# Altium footprint library Capacitors SMD.PcbLib: 74 footprints (part 3 of 5)
Each footprint in its own frame and in the unit in brackets; x right, y up, seen from the top. Pads: shape width x height; smd on the part's side, far side on the other; paste and mask are expansions set on the pad; w line width, h text height; cw(c..) or ccw(c..) is an arc to the next point about the centre after c.
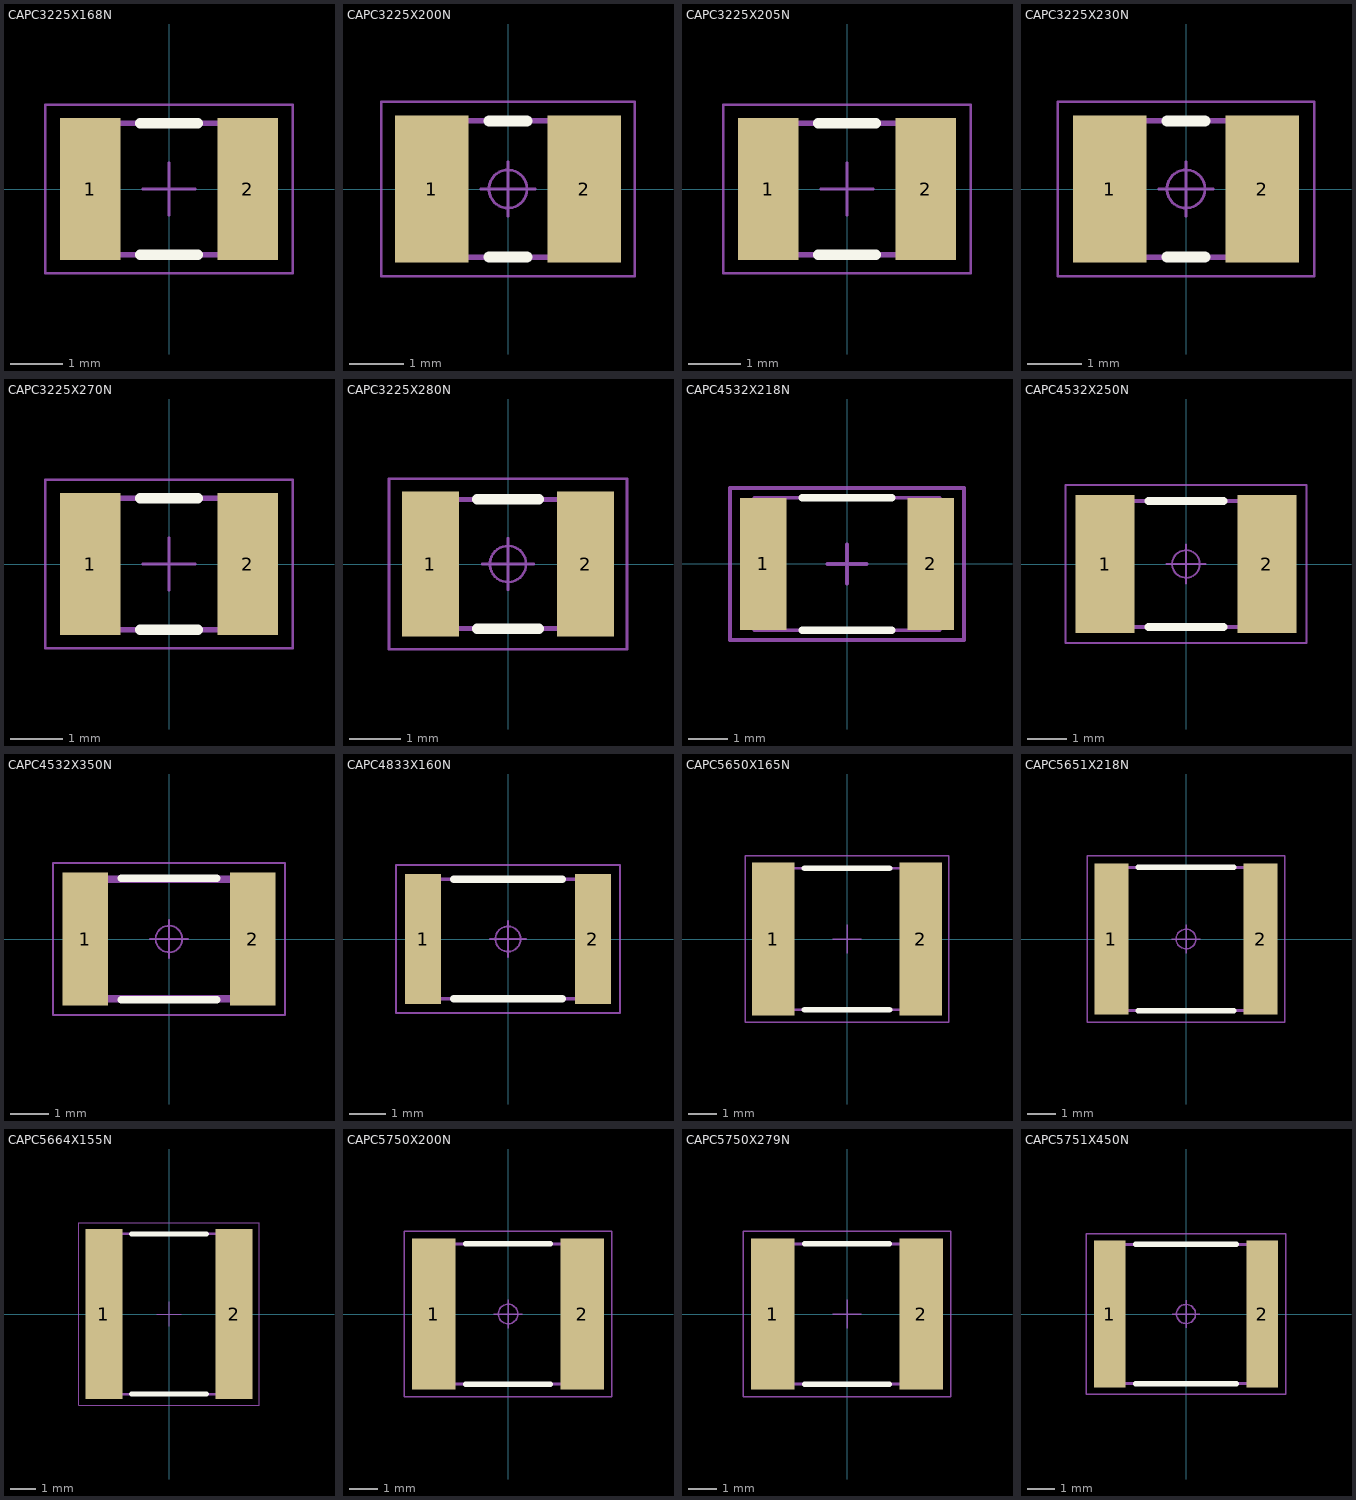
[diagram p2: the footprints below, top view; thin cyan lines are the x and y axes]

## CAPC3225X168N [mm] "Chip Capacitor, Body 3.2x2.5mm, IPC Medium Density"
height 1.68
pads (2):
  rect 1.15x2.7 smd: 1(-1.5,0) 2(1.5,0)
Top Overlay:
  lines w0.2: -0.55,-1.25 0.55,-1.25 ; -0.55,1.25 0.55,1.25
Mechanical 14:
  lines w0.1: -1.6,-1.25 -1.6,1.25 1.6,1.25 1.6,-1.25 -1.6,-1.25
Mechanical 15:
  lines w0.05: -0.5,0 0,0 ; 0,-0.5 0,0 ; 0,0.5 0,0 ; 0.5,0 0,0 ; -2.35,-1.6 -2.35,1.6 2.35,1.6 2.35,-1.6 -2.35,-1.6
3D body "CAPC3225X168N.stp": height 1.68, standoff 0, extent -1.7,-1.35 1.7,1.35

## CAPC3225X200N [mm] "Chip Capacitor, Body 3.2x2.5mm, IPC Medium Density"
height 2
pads (2):
  rect 1.35x2.7 smd: 1(-1.4,0) 2(1.4,0)
Top Overlay:
  lines w0.2: -0.35,-1.25 0.35,-1.25 ; -0.35,1.25 0.35,1.25
Mechanical 14:
  lines w0.1: -1.6,-1.25 -1.6,1.25 1.6,1.25 1.6,-1.25 -1.6,-1.25
Mechanical 15:
  circle w0.05: c0,0 r0.35
  lines w0.05: -0.5,0 0.5,0 ; 0,-0.5 0,0.5 ; -2.325,-1.6 -2.325,1.6 2.325,1.6 2.325,-1.6 -2.325,-1.6
3D body "CAPC3225X200N.stp": height 2, standoff 0, extent -1.7,-1.35 1.5,1.35

## CAPC3225X205N [mm] "Chip Capacitor, Body 3.2x2.5mm, IPC Medium Density"
height 2.05
pads (2):
  rect 1.15x2.7 smd: 1(-1.5,0) 2(1.5,0)
Top Overlay:
  lines w0.2: -0.55,-1.25 0.55,-1.25 ; -0.55,1.25 0.55,1.25
Mechanical 14:
  lines w0.1: -1.6,-1.25 1.6,-1.25 1.6,1.25 -1.6,1.25 -1.6,-1.25
Mechanical 15:
  lines w0.05: -2.35,-1.6 -2.35,1.6 2.35,1.6 2.35,-1.6 -2.35,-1.6 ; -0.5,0 0.5,0 -0.5,0 ; 0,-0.5 0,0.5 0,-0.5
3D body "CAPC3225X205N.stp": height 2.05, standoff 0, extent -1.7,-1.35 1.7,1.35

## CAPC3225X230N [mm] "Chip Capacitor, Body 3.2x2.5mm, IPC Medium Density"
height 2.3
pads (2):
  rect 1.35x2.7 smd: 1(-1.4,0) 2(1.4,0)
Top Overlay:
  lines w0.2: -0.35,-1.25 0.35,-1.25 ; -0.35,1.25 0.35,1.25
Mechanical 14:
  lines w0.1: -1.6,-1.25 -1.6,1.25 1.6,1.25 1.6,-1.25 -1.6,-1.25
Mechanical 15:
  circle w0.05: c0,0 r0.35
  lines w0.05: -0.5,0 0.5,0 ; 0,-0.5 0,0.5 ; -2.35,-1.6 -2.35,1.6 2.35,1.6 2.35,-1.6 -2.35,-1.6
3D body "CAPC3225X230N.stp": height 2.3, standoff 0, extent -1.7,-1.35 1.7,1.35

## CAPC3225X270N [mm] "Chip Capacitor, Body 3.2x2.5mm, IPC Medium Density"
height 2.7
pads (2):
  rect 1.15x2.7 smd: 1(-1.5,0) 2(1.5,0)
Top Overlay:
  lines w0.2: -0.55,-1.25 0.55,-1.25 ; -0.55,1.25 0.55,1.25
Mechanical 14:
  lines w0.1: -1.6,-1.25 1.6,-1.25 1.6,1.25 -1.6,1.25 -1.6,-1.25
Mechanical 15:
  lines w0.05: -2.35,-1.6 -2.35,1.6 2.35,1.6 2.35,-1.6 -2.35,-1.6 ; -0.5,0 0.5,0 -0.5,0 ; 0,-0.5 0,0.5 0,-0.5
3D body "CAPC3225X270N.stp": height 2.7, standoff 0, extent -1.7,-1.35 1.7,1.35

## CAPC3225X280N [mm] "Chip Capacitor, Body 3.2x2.5mm, IPC Medium Density"
height 2.8
pads (2):
  rect 1.1x2.8 smd: 1(-1.5,0) 2(1.5,0)
Top Overlay:
  lines w0.2: -0.6,-1.25 0.6,-1.25 ; -0.6,1.25 0.6,1.25
Mechanical 14:
  lines w0.1: -1.6,-1.25 1.6,-1.25 1.6,1.25 -1.6,1.25 -1.6,-1.25
Mechanical 15:
  circle w0.05: c0,0 r0.35
  lines w0.05: -0.5,0 0.5,0 ; 0,-0.5 0,0.5 ; -2.3,-1.65 2.3,-1.65 2.3,1.65 -2.3,1.65 -2.3,-1.65
3D body "CAPC3225X280N.stp": height 2.8, standoff 0, extent -1.7,-1.35 1.7,1.35

## CAPC4532X218N [mm] "Chip Capacitor, 2-Leads, Body 4.5x3.2mm, IPC Medium Density"
height 2.18
pads (2):
  rect 1.2x3.4 smd: 1(-2.15,0) 2(2.15,0)
Top Overlay:
  lines w0.2: -1.15,-1.7 1.15,-1.7 ; -1.15,1.7 1.15,1.7
Mechanical 14:
  lines w0.1: -2.375,-1.7 -2.375,1.7 2.375,1.7 2.375,-1.7 -2.375,-1.7
Mechanical 15:
  lines w0.1: -0.5,0 0.5,0 ; 0,-0.5 0,0.5 ; -3,-1.95 -3,1.95 3,1.95 3,-1.95 -3,-1.95
3D body "CAPC4532X218N.stp": height 2.18, standoff 0, extent -2.375,-1.7 2.375,1.7

## CAPC4532X250N [mm] "Chip Capacitor, 2-Leads, Body 4.5x3.2mm, IPC Medium Density"
height 2.5
pads (2):
  rect 1.5x3.5 smd: 1(-2.05,0) 2(2.05,0)
Top Overlay:
  lines w0.2: -0.95,-1.6 0.95,-1.6 ; -0.95,1.6 0.95,1.6
Mechanical 14:
  lines w0.1: -2.25,-1.6 2.25,-1.6 2.25,1.6 -2.25,1.6 -2.25,-1.6
Mechanical 15:
  circle w0.05: c0,0 r0.35
  lines w0.05: -0.5,0 0.5,0 ; 0,-0.5 0,0.5 ; -3.05,-2 3.05,-2 3.05,2 -3.05,2 -3.05,-2
3D body "CAPC4532X250N.stp": height 2.5, standoff 0, extent -2.375,-1.7 2.375,1.7

## CAPC4532X350N [mm] "Chip Capacitor, 2-Leads, Body 4.5x3.2mm, IPC Medium Density"
height 3.5
pads (2):
  rect 1.2x3.5 smd: 1(-2.2,0) 2(2.2,0)
Top Overlay:
  lines w0.2: -1.25,-1.6 1.25,-1.6 ; -1.25,1.6 1.25,1.6
Mechanical 14:
  lines w0.2: -2.25,-1.575 -2.25,1.575 2.25,1.575 2.25,-1.575 -2.25,-1.575
Mechanical 15:
  circle w0.05: c0,0 r0.35
  lines w0.05: -0.5,0 0.5,0 ; 0,-0.5 0,0.5 ; -3.05,-2 -3.05,2 3.05,2 3.05,-2 -3.05,-2
3D body "CAPC4532X350N.stp": height 3.5, standoff 0, extent -2.45,-1.8 2.45,1.8

## CAPC4833X160N [mm] "Chip Capacitor, 2-Leads, Body 4.8x3.3mm, IPC Medium Density"
height 1.6
pads (2):
  rect 1x3.6 smd: 1(-2.35,0) 2(2.35,0)
Top Overlay:
  lines w0.2: -1.5,-1.65 1.5,-1.65 ; -1.5,1.65 1.5,1.65
Mechanical 14:
  lines w0.1: -2.4,-1.65 -2.4,1.65 2.4,1.65 2.4,-1.65 -2.4,-1.65
Mechanical 15:
  circle w0.05: c0,0 r0.35
  lines w0.05: -0.5,0 0.5,0 ; 0,-0.5 0,0.5 ; -3.1,-2.05 -3.1,2.05 3.1,2.05 3.1,-2.05 -3.1,-2.05
3D body "CAPC4833X160N.stp": height 1.6, standoff 0, extent -2.4,-1.65 2.4,1.65

## CAPC5650X165N [mm] "Chip Capacitor, 2-Leads,Body 5.6x5mm, IPC Medium Density"
height 1.65
pads (2):
  rect 1.5x5.4 smd: 1(-2.6,0) 2(2.6,0)
Top Overlay:
  lines w0.2: -1.5,-2.5 1.5,-2.5 ; -1.5,2.5 1.5,2.5
Mechanical 14:
  lines w0.1: -2.8,-2.5 2.8,-2.5 2.8,2.5 -2.8,2.5 -2.8,-2.5
Mechanical 15:
  lines w0.05: -0.5,0 0.5,0 ; 0,-0.5 0,0.5 ; -3.6,-2.95 3.6,-2.95 3.6,2.95 -3.6,2.95 -3.6,-2.95
3D body "CAPC5650X165N.stp": height 1.65, standoff 0, extent -3,-2.7 3,2.7

## CAPC5651X218N [mm] "Chip Capacitor, 2-Leads,Body 5.6x5.1mm, IPC Medium Density"
height 2.18
pads (2):
  rect 1.2x5.35 smd: 1(-2.65,0) 2(2.65,0)
Top Overlay:
  lines w0.2: -1.7,-2.55 1.7,-2.55 ; -1.7,2.55 1.7,2.55
Mechanical 14:
  lines w0.1: -2.795,-2.54 2.795,-2.54 2.795,2.54 -2.795,2.54 -2.795,-2.54
Mechanical 15:
  circle w0.05: c0,0 r0.35
  lines w0.05: -0.5,0 0.5,0 ; 0,-0.5 0,0.5 ; -3.5,-2.95 3.5,-2.95 3.5,2.95 -3.5,2.95 -3.5,-2.95
3D body "CAPC5651X218N.stp": height 2.18, standoff 0, extent -2.795,-2.54 2.795,2.54

## CAPC5664X155N [mm] "Chip Capacitor, 2-Leads, Body 5.6x6.4mm, IPC Medium Density"
height 1.55
pads (2):
  rect 1.5x6.8 smd: 1(-2.6,0) 2(2.6,0)
Top Overlay:
  lines w0.2: -1.5,-3.2 1.5,-3.2 ; -1.5,3.2 1.5,3.2
Mechanical 14:
  lines w0.1: -2.8,-3.2 2.8,-3.2 2.8,3.2 -2.8,3.2 -2.8,-3.2
Mechanical 15:
  lines w0.05: -0.5,0 0.5,0 ; 0,-0.5 0,0.5 ; -3.6,-3.65 3.6,-3.65 3.6,3.65 -3.6,3.65 -3.6,-3.65
3D body "CAPC5664X155N.stp": height 1.55, standoff 0, extent -3,-3.4 3,3.4

## CAPC5750X200N [mm] "Chip Capacitor, 2-Leads, Body 5.7x5.0mm, IPC Medium Density"
height 2
pads (2):
  rect 1.55x5.4 smd: 1(-2.65,0) 2(2.65,0)
Top Overlay:
  lines w0.2: -1.5,-2.5 1.5,-2.5 ; -1.5,2.5 1.5,2.5
Mechanical 14:
  lines w0.1: -2.85,-2.5 2.85,-2.5 2.85,2.5 -2.85,2.5 -2.85,-2.5
Mechanical 15:
  circle w0.05: c0,0 r0.35
  lines w0.05: -0.5,0 0.5,0 ; 0,-0.5 0,0.5 ; -3.7,-2.95 3.7,-2.95 3.7,2.95 -3.7,2.95 -3.7,-2.95
3D body "CAPC5750X200N.stp": height 2, standoff 0, extent -3.05,-2.7 3.05,2.7

## CAPC5750X279N [mm] "Chip Capacitor, 2-Leads, Body 5.7x5.0mm, IPC Medium Density"
height 2.79
pads (2):
  rect 1.55x5.4 smd: 1(-2.65,0) 2(2.65,0)
Top Overlay:
  lines w0.2: -1.5,-2.5 1.5,-2.5 ; -1.5,2.5 1.5,2.5
Mechanical 14:
  lines w0.1: -2.85,-2.5 -2.85,2.5 2.85,2.5 2.85,-2.5 -2.85,-2.5
Mechanical 15:
  lines w0.05: -0.5,0 0.5,0 ; 0,-0.5 0,0.5 ; -3.7,-2.95 -3.7,2.95 3.7,2.95 3.7,-2.95 -3.7,-2.95
3D body "CAPC5750X279N.stp": height 2.79, standoff 0, extent -3.05,-2.7 3.05,2.7

## CAPC5751X450N [mm] "Chip Capacitor, 2-Leads,Body 5.7x5.1mm, IPC Medium Density"
height 4.5
pads (2):
  rect 1.15x5.4 smd: 1(-2.8,0) 2(2.8,0)
Top Overlay:
  lines w0.2: -1.85,-2.55 1.85,-2.55 ; -1.85,2.55 1.85,2.55
Mechanical 14:
  lines w0.1: -2.85,-2.55 2.85,-2.55 2.85,2.55 -2.85,2.55 -2.85,-2.55
Mechanical 15:
  circle w0.05: c0,0 r0.35
  lines w0.05: -0.5,0 0.5,0 ; 0,-0.5 0,0.5 ; -3.65,-2.95 3.65,-2.95 3.65,2.95 -3.65,2.95 -3.65,-2.95
3D body "CAPC5751X450N.stp": height 4.5, standoff 0, extent -2.85,-2.55 2.85,2.55